# EAGLE library part USB-MICROAB-STRT (library lib_stankus)
USB Micro-AB connector, straight Farnell #2293775
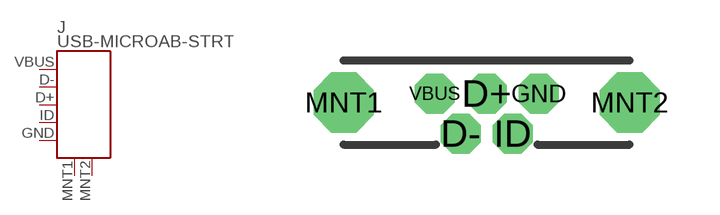
[diagram p78: symbol with the pads of USB-MICROAB-STRT; footprint USB-MICROAB-STRT]

Designator prefix J

## USB-MICROAB-STRT  [USB-MICROAB-STRT]
D+  D+  pas
D-  D-  pas
GND  GND  pas
ID  ID  pas
MNT1  MTN1  pas
MNT2  MTN2  pas
VBUS  VBUS  pas

## Footprint USB-MICROAB-STRT (pad centres in mm)
USB Micro-AB connector, straight
drill 0.5 pad 0.762 octagon: D+ 0,0.22; D- -0.65,-0.78; GND 1.3,0.22; ID 0.65,-0.78; VBUS -1.3,0.22
drill 1 octagon: MNT1 -3.575,0; MNT2 3.575,0